# EAGLE library part STM32F429ZT_MDB (library MDB_HOMEBAK)
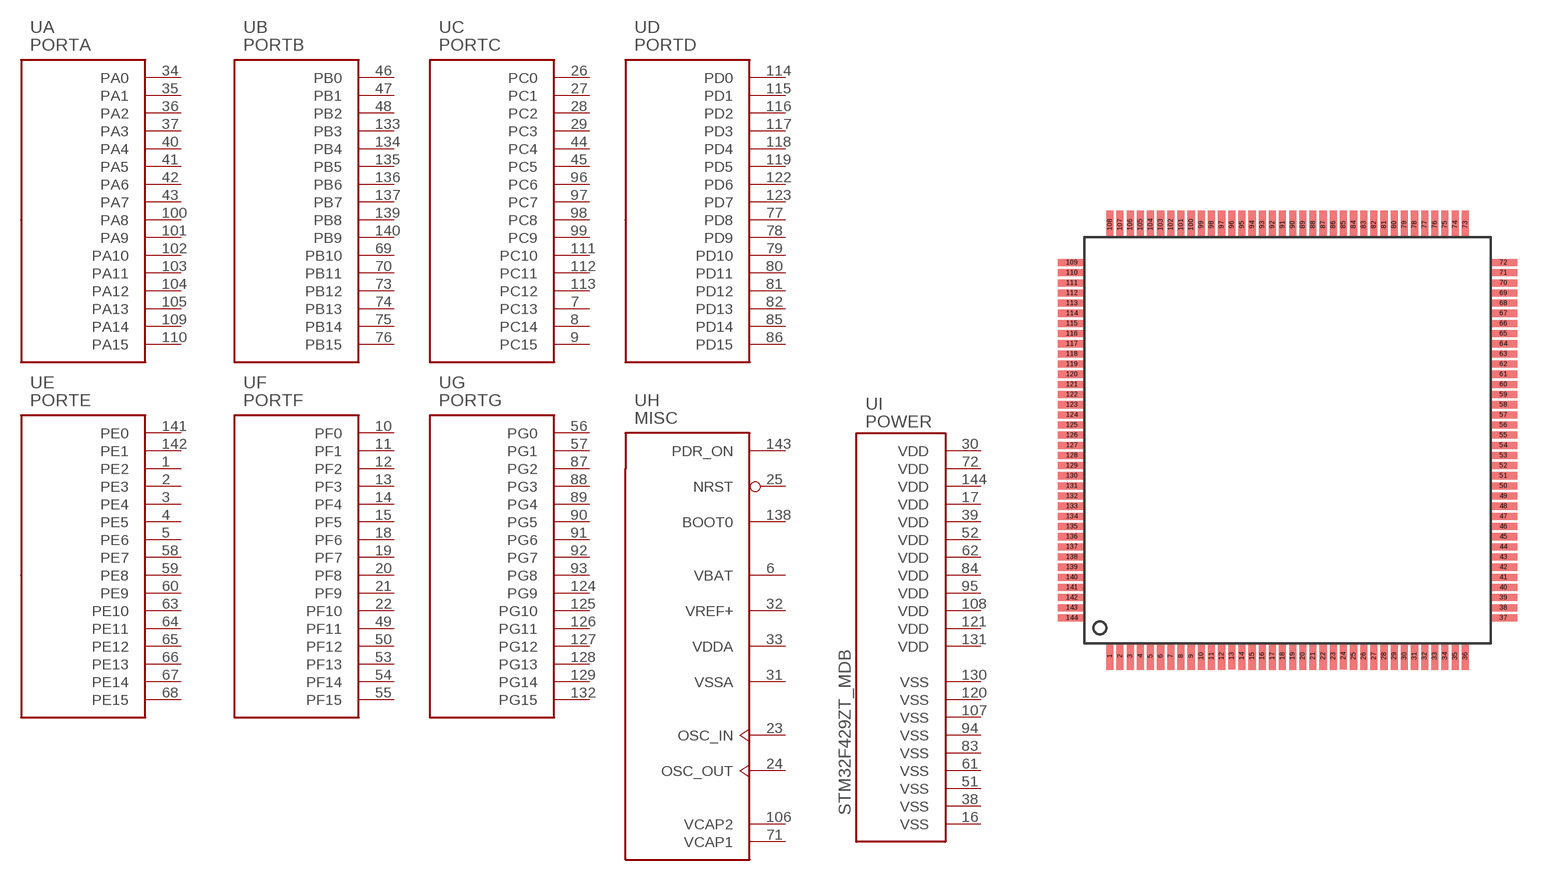
[diagram p31: symbol with the pads of LQFP144; footprint LQFP144]

Designator prefix U; gates A=PORTA B=PORTB C=PORTC D=PORTD E=PORTE F=PORTF G=PORTG I=STM32_PWR H=MISC

## STM32F429ZT_MDB  [LQFP144]
1  E:PE2
2  E:PE3
3  E:PE4
4  E:PE5
5  E:PE6
6  H:VBAT  pwr
7  C:PC13
8  C:PC14
9  C:PC15
10  F:PF0
11  F:PF1
12  F:PF2
13  F:PF3
14  F:PF4
15  F:PF5
16  I:VSS  pwr
17  I:VDD  pwr
18  F:PF6
19  F:PF7
20  F:PF8
21  F:PF9
22  F:PF10
23  H:OSC_IN  sup
24  H:OSC_OUT  sup
25  H:NRST  sup
26  C:PC0
27  C:PC1
28  C:PC2
29  C:PC3
30  I:VDD  pwr
31  H:VSSA  pwr
32  H:VREF+  pwr
33  H:VDDA  pwr
34  A:PA0
35  A:PA1
36  A:PA2
37  A:PA3
38  I:VSS  pwr
39  I:VDD  pwr
40  A:PA4
41  A:PA5
42  A:PA6
43  A:PA7
44  C:PC4
45  C:PC5
46  B:PB0
47  B:PB1
48  B:PB2
49  F:PF11
50  F:PF12
51  I:VSS  pwr
52  I:VDD  pwr
53  F:PF13
54  F:PF14
55  F:PF15
56  G:PG0
57  G:PG1
58  E:PE7
59  E:PE8
60  E:PE9
61  I:VSS  pwr
62  I:VDD  pwr
63  E:PE10
64  E:PE11
65  E:PE12
66  E:PE13
67  E:PE14
68  E:PE15
69  B:PB10
70  B:PB11
71  H:VCAP1  sup
72  I:VDD  pwr
73  B:PB12
74  B:PB13
75  B:PB14
76  B:PB15
77  D:PD8
78  D:PD9
79  D:PD10
80  D:PD11
81  D:PD12
82  D:PD13
83  I:VSS  pwr
84  I:VDD  pwr
85  D:PD14
86  D:PD15
87  G:PG2
88  G:PG3
89  G:PG4
90  G:PG5
91  G:PG6
92  G:PG7
93  G:PG8
94  I:VSS  pwr
95  I:VDD  pwr
96  C:PC6
97  C:PC7
98  C:PC8
99  C:PC9
100  A:PA8
101  A:PA9
102  A:PA10
103  A:PA11
104  A:PA12
105  A:PA13
106  H:VCAP2  sup
107  I:VSS  pwr
108  I:VDD  pwr
109  A:PA14
110  A:PA15
111  C:PC10
112  C:PC11
113  C:PC12
114  D:PD0
115  D:PD1
116  D:PD2
117  D:PD3
118  D:PD4
119  D:PD5
120  I:VSS  pwr
121  I:VDD  pwr
122  D:PD6
123  D:PD7
124  G:PG9
125  G:PG10
126  G:PG11
127  G:PG12
128  G:PG13
129  G:PG14
130  I:VSS  pwr
131  I:VDD  pwr
132  G:PG15
133  B:PB3
134  B:PB4
135  B:PB5
136  B:PB6
137  B:PB7
138  H:BOOT0  sup
139  B:PB8
140  B:PB9
141  E:PE0
142  E:PE1
143  H:PDR_ON  sup
144  I:VDD  pwr

## Footprint LQFP144 (pad centres in mm)
LQFP144 20 x 20 mm, 144-pin low-profile quad flat package
smd 0.35 x 1.35: 1 -8.75,-10.625; 2 -8.25,-10.625; 3 -7.75,-10.625; 4 -7.25,-10.625; 5 -6.75,-10.625; 6 -6.25,-10.625; 7 -5.75,-10.625; 8 -5.25,-10.625; 9 -4.75,-10.625; 10 -4.25,-10.625; 11 -3.75,-10.625; 12 -3.25,-10.625; 13 -2.75,-10.62; 14 -2.25,-10.625; 15 -1.75,-10.625; 16 -1.25,-10.625; 17 -0.75,-10.625; 18 -0.25,-10.625; 19 0.25,-10.625; 20 0.75,-10.625; 21 1.25,-10.625; 22 1.75,-10.625; 23 2.25,-10.625; 24 2.75,-10.62; 25 3.25,-10.625; 26 3.75,-10.625; 27 4.25,-10.625; 28 4.75,-10.625; 29 5.25,-10.625; 30 5.75,-10.625; 31 6.25,-10.625; 32 6.75,-10.625; 33 7.25,-10.625; 34 7.75,-10.625; 35 8.25,-10.625; 36 8.75,-10.625; 73 8.75,10.625; 74 8.25,10.625; 75 7.75,10.625; 76 7.25,10.625; 77 6.75,10.625; 78 6.25,10.625; 79 5.75,10.625; 80 5.25,10.625; 81 4.75,10.625; 82 4.25,10.625; 83 3.75,10.625; 84 3.25,10.625; 85 2.75,10.625; 86 2.25,10.625; 87 1.75,10.625; 88 1.25,10.625; 89 0.75,10.625; 90 0.25,10.625; 91 -0.25,10.625; 92 -0.75,10.625; 93 -1.25,10.625; 94 -1.75,10.625; 95 -2.25,10.625; 96 -2.75,10.625; 97 -3.25,10.625; 98 -3.75,10.625; 99 -4.25,10.625; 100 -4.75,10.625; 101 -5.25,10.625; 102 -5.75,10.625; 103 -6.25,10.625; 104 -6.75,10.625; 105 -7.25,10.625; 106 -7.75,10.625; 107 -8.25,10.625; 108 -8.75,10.625
smd 1.35 x 0.35: 37 10.625,-8.75; 38 10.625,-8.25; 39 10.625,-7.75; 40 10.625,-7.25; 41 10.625,-6.75; 42 10.625,-6.25; 43 10.625,-5.75; 44 10.625,-5.25; 45 10.625,-4.75; 46 10.625,-4.25; 47 10.625,-3.75; 48 10.625,-3.25; 49 10.625,-2.75; 50 10.625,-2.25; 51 10.625,-1.75; 52 10.625,-1.25; 53 10.625,-0.75; 54 10.625,-0.25; 55 10.625,0.25; 56 10.625,0.75; 57 10.625,1.25; 58 10.625,1.75; 59 10.625,2.25; 60 10.625,2.75; 61 10.625,3.25; 62 10.625,3.75; 63 10.625,4.25; 64 10.625,4.75; 65 10.625,5.25; 66 10.625,5.75; 67 10.625,6.25; 68 10.625,6.75; 69 10.625,7.25; 70 10.625,7.75; 71 10.625,8.25; 72 10.625,8.75; 109 -10.625,8.75; 110 -10.625,8.25; 111 -10.625,7.75; 112 -10.625,7.25; 113 -10.625,6.75; 114 -10.625,6.25; 115 -10.625,5.75; 116 -10.625,5.25; 117 -10.625,4.75; 118 -10.625,4.25; 119 -10.625,3.75; 120 -10.625,3.25; 121 -10.625,2.75; 122 -10.625,2.25; 123 -10.625,1.75; 124 -10.625,1.25; 125 -10.625,0.75; 126 -10.625,0.25; 127 -10.625,-0.25; 128 -10.625,-0.75; 129 -10.625,-1.25; 130 -10.625,-1.75; 131 -10.625,-2.25; 132 -10.625,-2.75; 133 -10.625,-3.25; 134 -10.625,-3.75; 135 -10.625,-4.25; 136 -10.625,-4.75; 137 -10.625,-5.25; 138 -10.625,-5.75; 139 -10.625,-6.25; 140 -10.625,-6.75; 141 -10.625,-7.25; 142 -10.625,-7.75; 143 -10.625,-8.25; 144 -10.625,-8.75